# EAGLE library part ATMEGA328P_PDIP (library IC & Transistor)
uC used in the Arduino 32kb flash, 1k EEPROM, 2k SRAM This is the through-hole version of this chip.
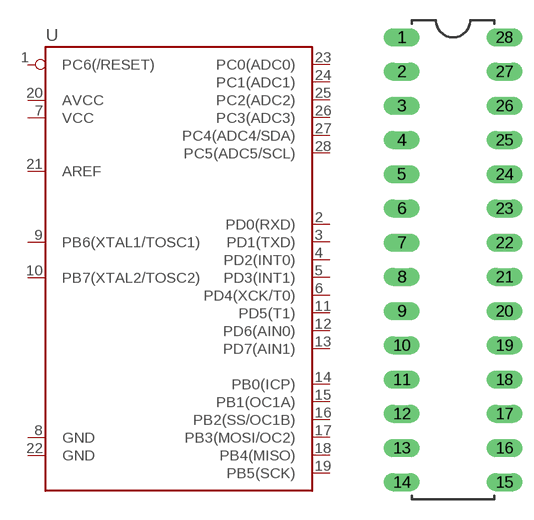
[diagram p10: symbol with the pads of DIP-28; footprint DIP-28]

Designator prefix U

## ATMEGA328P_PDIP  [DIP-28]
1  PC6(/RESET)
2  PD0(RXD)
3  PD1(TXD)
4  PD2(INT0)
5  PD3(INT1)
6  PD4(XCK/T0)
7  VCC
8  GND
9  PB6(XTAL1/TOSC1)
10  PB7(XTAL2/TOSC2)
11  PD5(T1)
12  PD6(AIN0)
13  PD7(AIN1)
14  PB0(ICP)
15  PB1(OC1A)
16  PB2(SS/OC1B)
17  PB3(MOSI/OC2)
18  PB4(MISO)
19  PB5(SCK)
20  AVCC
21  AREF
22  GND
23  PC0(ADC0)
24  PC1(ADC1)
25  PC2(ADC2)
26  PC3(ADC3)
27  PC4(ADC4/SDA)
28  PC5(ADC5/SCL)

## Footprint DIP-28 (pad centres in mm)
Standard 28-pin DIP package. IC needs to have legs bent before insertion.
drill 0.813 long: 1 -3.81,16.51; 2 -3.81,13.97; 3 -3.81,11.43; 4 -3.81,8.89; 5 -3.81,6.35; 6 -3.81,3.81; 7 -3.81,1.27; 8 -3.81,-1.27; 9 -3.81,-3.81; 10 -3.81,-6.35; 11 -3.81,-8.89; 12 -3.81,-11.43; 13 -3.81,-13.97; 14 -3.81,-16.51; 15 3.81,-16.51; 16 3.81,-13.97; 17 3.81,-11.43; 18 3.81,-8.89; 19 3.81,-6.35; 20 3.81,-3.81; 21 3.81,-1.27; 22 3.81,1.27; 23 3.81,3.81; 24 3.81,6.35; 25 3.81,8.89; 26 3.81,11.43; 27 3.81,13.97; 28 3.81,16.51